# Altium integrated library ANT.IntLib: 2 symbols
Pins are listed as number, name and electrical type; pins without a type are passive.

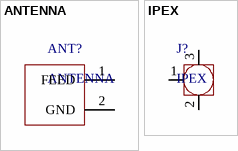
[diagram p0: symbols ANTENNA to IPEX]

## ANTENNA
designator ANT?
footprint ANT_2.4G
pins: 1 FEED, 2 GND

## IPEX
designator J?
footprint IPEX
pins: 1, 2, 3